# EAGLE library part 28*04A (library 00_cody)
CMOS EPROM 4 K (512 x 8) Source: ww1.microchip.com/downloads/en/DeviceDoc/11126H.pdf
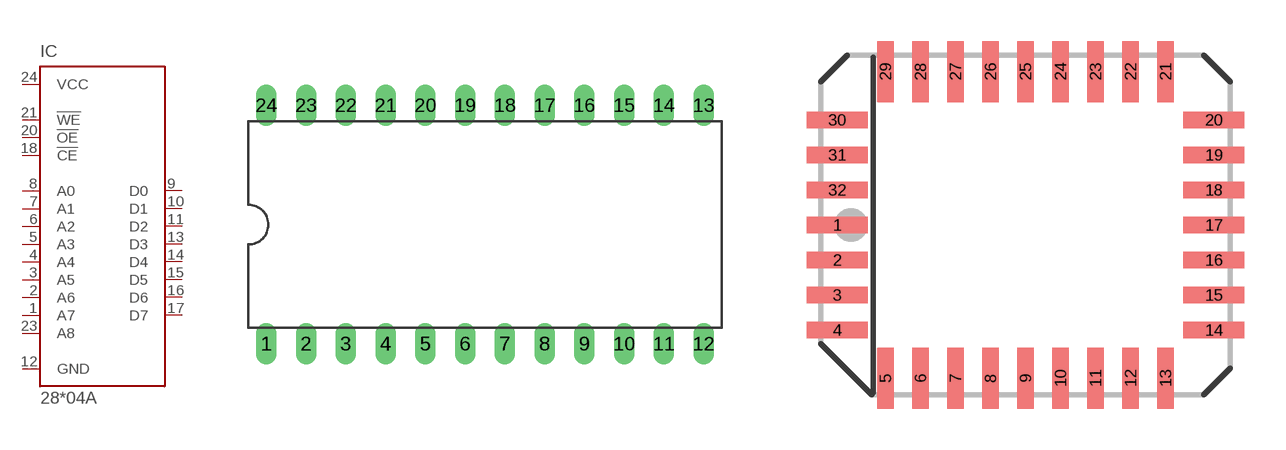
[diagram p34: symbol with the pads of DIL24-6; footprints DIL24-6, PLCC-32]

Designator prefix IC

## 28C04AP (OC_FARNELL: unknown; OC_NEWARK: unknown)  [DIL24-6]
1  A7  in
2  A6  in
3  A5  in
4  A4  in
5  A3  in
6  A2  in
7  A1  in
8  A0  in
9  D0  hiz
10  D1  hiz
11  D2  hiz
12  GND  pwr
13  D3  hiz
14  D4  hiz
15  D5  hiz
16  D6  hiz
17  D7  hiz
18  !CE  in
19  NC19  nc
20  !OE  in
21  !WE  in
22  NC22  nc
23  A8  in
24  VCC  pwr

## 28C04AL (OC_FARNELL: unknown; OC_NEWARK: unknown)  [PLCC-32]
1  NC19  nc
4  A7  in
5  A6  in
6  A5  in
7  A4  in
8  A3  in
9  A2  in
10  A1  in
11  A0  in
13  D0  hiz
14  D1  hiz
15  D2  hiz
16  GND  pwr
17  NC22  nc
18  D3  hiz
19  D4  hiz
20  D5  hiz
21  D6  hiz
22  D7  hiz
23  !CE  in
25  !OE  in
29  A8  in
31  !WE  in
32  VCC  pwr

## Footprint DIL24-6 (pad centres in mm)
Dual In Line package type P
drill 0.813 long: 1 -13.97,-7.62; 2 -11.43,-7.62; 3 -8.89,-7.62; 4 -6.35,-7.62; 5 -3.81,-7.62; 6 -1.27,-7.62; 7 1.27,-7.62; 8 3.81,-7.62; 9 6.35,-7.62; 10 8.89,-7.62; 11 11.43,-7.62; 12 13.97,-7.62; 13 13.97,7.62; 14 11.43,7.62; 15 8.89,7.62; 16 6.35,7.62; 17 3.81,7.62; 18 1.27,7.62; 19 -1.27,7.62; 20 -3.81,7.62; 21 -6.35,7.62; 22 -8.89,7.62; 23 -11.43,7.62; 24 -13.97,7.62

## Footprint PLCC-32 (pad centres in mm)
PLASTIC LEADED CHIP CARRIER rectangle, package type L
smd 2.2 x 0.6: 1 -6.83,0; 2 -6.83,-1.27; 3 -6.83,-2.54; 4 -6.83,-3.81; 14 6.83,-3.81; 15 6.83,-2.54; 16 6.83,-1.27; 17 6.83,0; 18 6.83,1.27; 19 6.83,2.54; 20 6.83,3.81; 30 -6.83,3.81; 31 -6.83,2.54; 32 -6.83,1.27
smd 0.6 x 2.2: 5 -5.08,-5.56; 6 -3.81,-5.56; 7 -2.54,-5.56; 8 -1.27,-5.56; 9 0,-5.56; 10 1.27,-5.56; 11 2.54,-5.56; 12 3.81,-5.56; 13 5.08,-5.56; 21 5.08,5.56; 22 3.81,5.56; 23 2.54,5.56; 24 1.27,5.56; 25 0,5.56; 26 -1.27,5.56; 27 -2.54,5.56; 28 -3.81,5.56; 29 -5.08,5.56